# Altium schematic symbol library UWRT_Schematic_Library_2020.SchLib: 766 symbols (part 3 of 8)
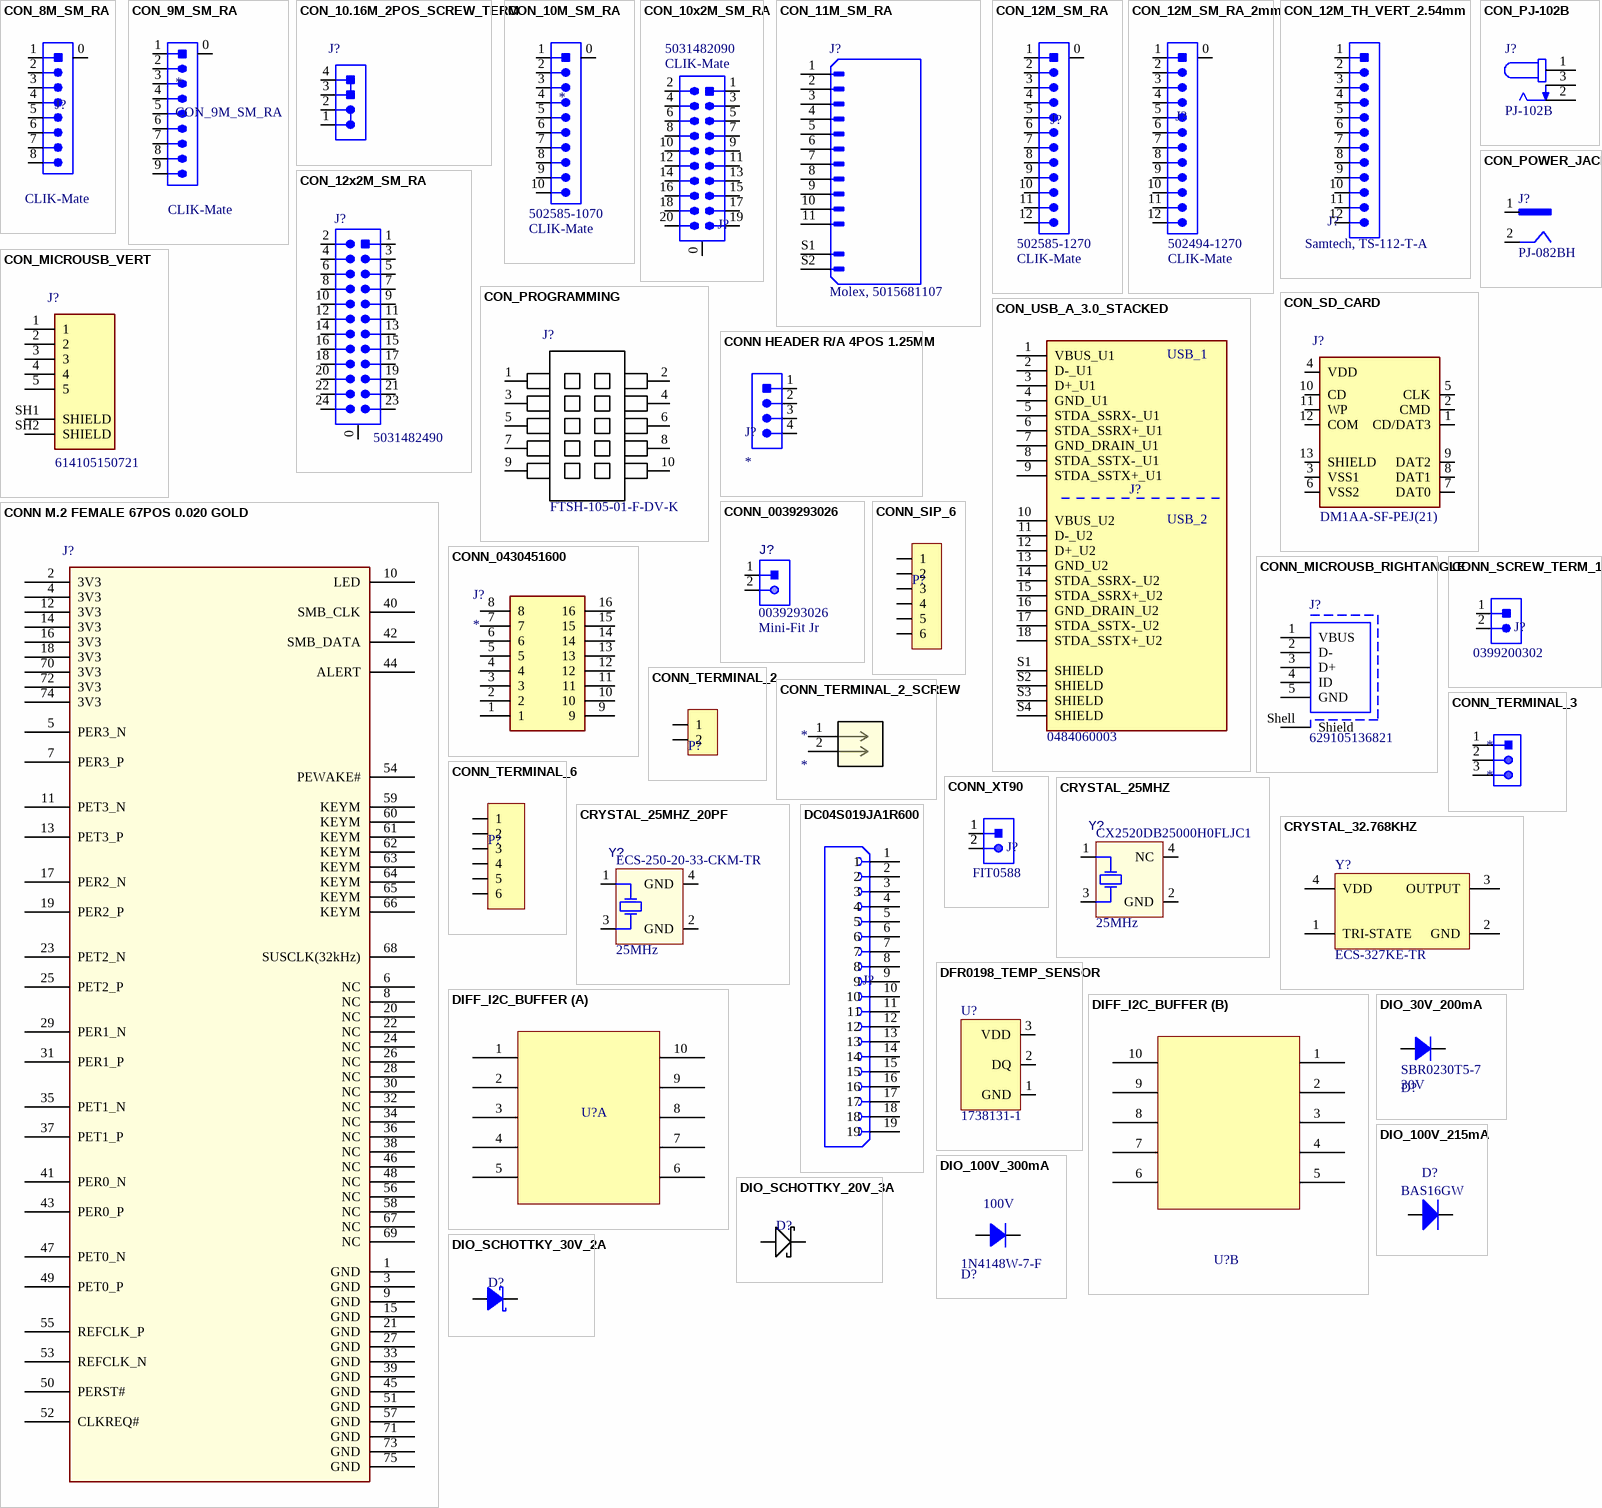
[diagram p27: symbols CON_8M_SM_RA to DIO_SCHOTTKY_30V_2A]

## DC04S019JA1R600
designator J?
HDMI HDMI 2.1 Receptacle Connector 19 Position Surface Mount, Right Angle; Through Hole; Manufacturer 1: JAE Electronics; Manufacturer Part Number 1: DC04S019JA1R600; Current Rating: 0.5A; Supplier 1: Digi-Key; Supplier Part Number 1: 670-3154-1-ND; Specifications: HDMI 2.1; Mounting Type: Surface Mount, Right Angle; Through Hole
footprint JAE_DC04S019JA1R600
pins: 1, 2, 3, 4, 5, 6, 7, 8, 9, 10, 11, 12, 13, 14, 15, 16, 17, 18, 19

## DFR0198_TEMP_SENSOR
designator U?  Manufacturer Part Number 1: 1738131-1
WATERPROOF DS18B20 DIGITAL TEMP SENSOR; Manufacturer 1: TE Connectivity AMP; Supplier 1: Digi-Key; Supplier Part Number 1: 1738-1311-ND
pins: 1 GND, 2 DQ, 3 VDD

## DIFF_I2C_BUFFER
designator U?, comment PCA9615DPJ  (value not drawn)
IC DIFF I2C BUFFER 2CH 10TSSOP; Manufacturer 1: NXP Semiconductors; Number of Channels: 2; Operating Supply Current: 16uA; Input: 2-Wire Bus; Max Frequency: 1MHz; Supplier 1: Digi-Key; Number of Pins: 10; Supplier Part Number 1: 568-11484-1-ND
footprint PCA9615DPJ (TSSOP-10)
part A pins: 1 VDDA, 2 SDA, 3 EN, 4 SCL, 5 VSS, 6 DSCLM, 7 DSCLP, 8 DSDAP, 9 DSDAM, 10 VDDB
part B pins: 1 VDDA, 2 SDA, 3 EN, 4 SCL, 5 VSS, 6 DSCLM, 7 DSCLP, 8 DSDAP, 9 DSDAM, 10 VDDB

## DIO_30V_200mA
designator D?  value 30V  Manufacturer Part Number 1: SBR0230T5-7
DIODE SBR 30V 200MA SOD523; Manufacturer 1: Diodes Incorporated; Supplier 1: Digi-Key; Supplier Part Number 1: SBR0230T5-7TR-ND
footprint SOD523 (ESD5Z3.3T1G)
pins: 1, 2

## DIO_100V_215mA
designator D?  Manufacturer Part Number 1: BAS16GW  (hidden comment: DIO_100V_215mA)
DIODE GEN PURP 100V 215MA SOD123; Manufacturer 1: Nexperia; Package/Footprint: SOD-123; Package: SOD-123; Supplier Part Number 1: 1727-7320-1-ND; Supplier 1: Digi-Key; Mounting Type: SMD; Verified: No
footprint DIODSOD-123 (SOD-123, 2-Leads, Body 2.85x1.7mm (max), Pitch 3.7mm)
pins: 1 A, 2 K

## DIO_100V_300mA
designator D?, comment value 100V  (hidden comment: 1N4148W-7-F)
DIODE GEN PURP 100V 300MA SOD123; Manufacturer 1: Diodes Incorporated; Device Class L2: Diodes; Supplier 1: Digi-Key; Supplier Part Number 1: 1N4148W-FDICT-ND; Manufacturer Part Number 1: 1N4148W-7-F
footprint SOD-123_FLAT
pins: 1, 2

## DIO_SCHOTTKY_20V_3A
designator D?  (value not drawn)
DIODE SCHOTTKY 20V 3A SMC; Part number: SS32; Manufacturer 1: ON Semiconductor / Fairchild; Supplier Part Number 1: SS32CT-ND; Supplier 1: Digi-Key; Manufacturer Part Number 1: SS32
footprint SS32 (Schottky Diode)
pins: 1 K, 2 A

## DIO_SCHOTTKY_30V_2A
designator D?  (value not drawn)
DIODE SCHOTTKY 30V 2A PMDTM; Manufacturer 1: Rohm Semiconductor; Manufacturer Part Number 1: RSX205LAM30TR; Vf (Max): 490mV; Package/Footprint: SOD-128; Supplier 1: Digi-Key; Supplier Part Number 1: RSX205LAM30CT-ND; Mounting Type: SMD; Vr (Max): 30V; Io: 2A
footprint SOD-128
pins: 1 Anode, 1 Anode, 2 Cathode, 2 Cathode

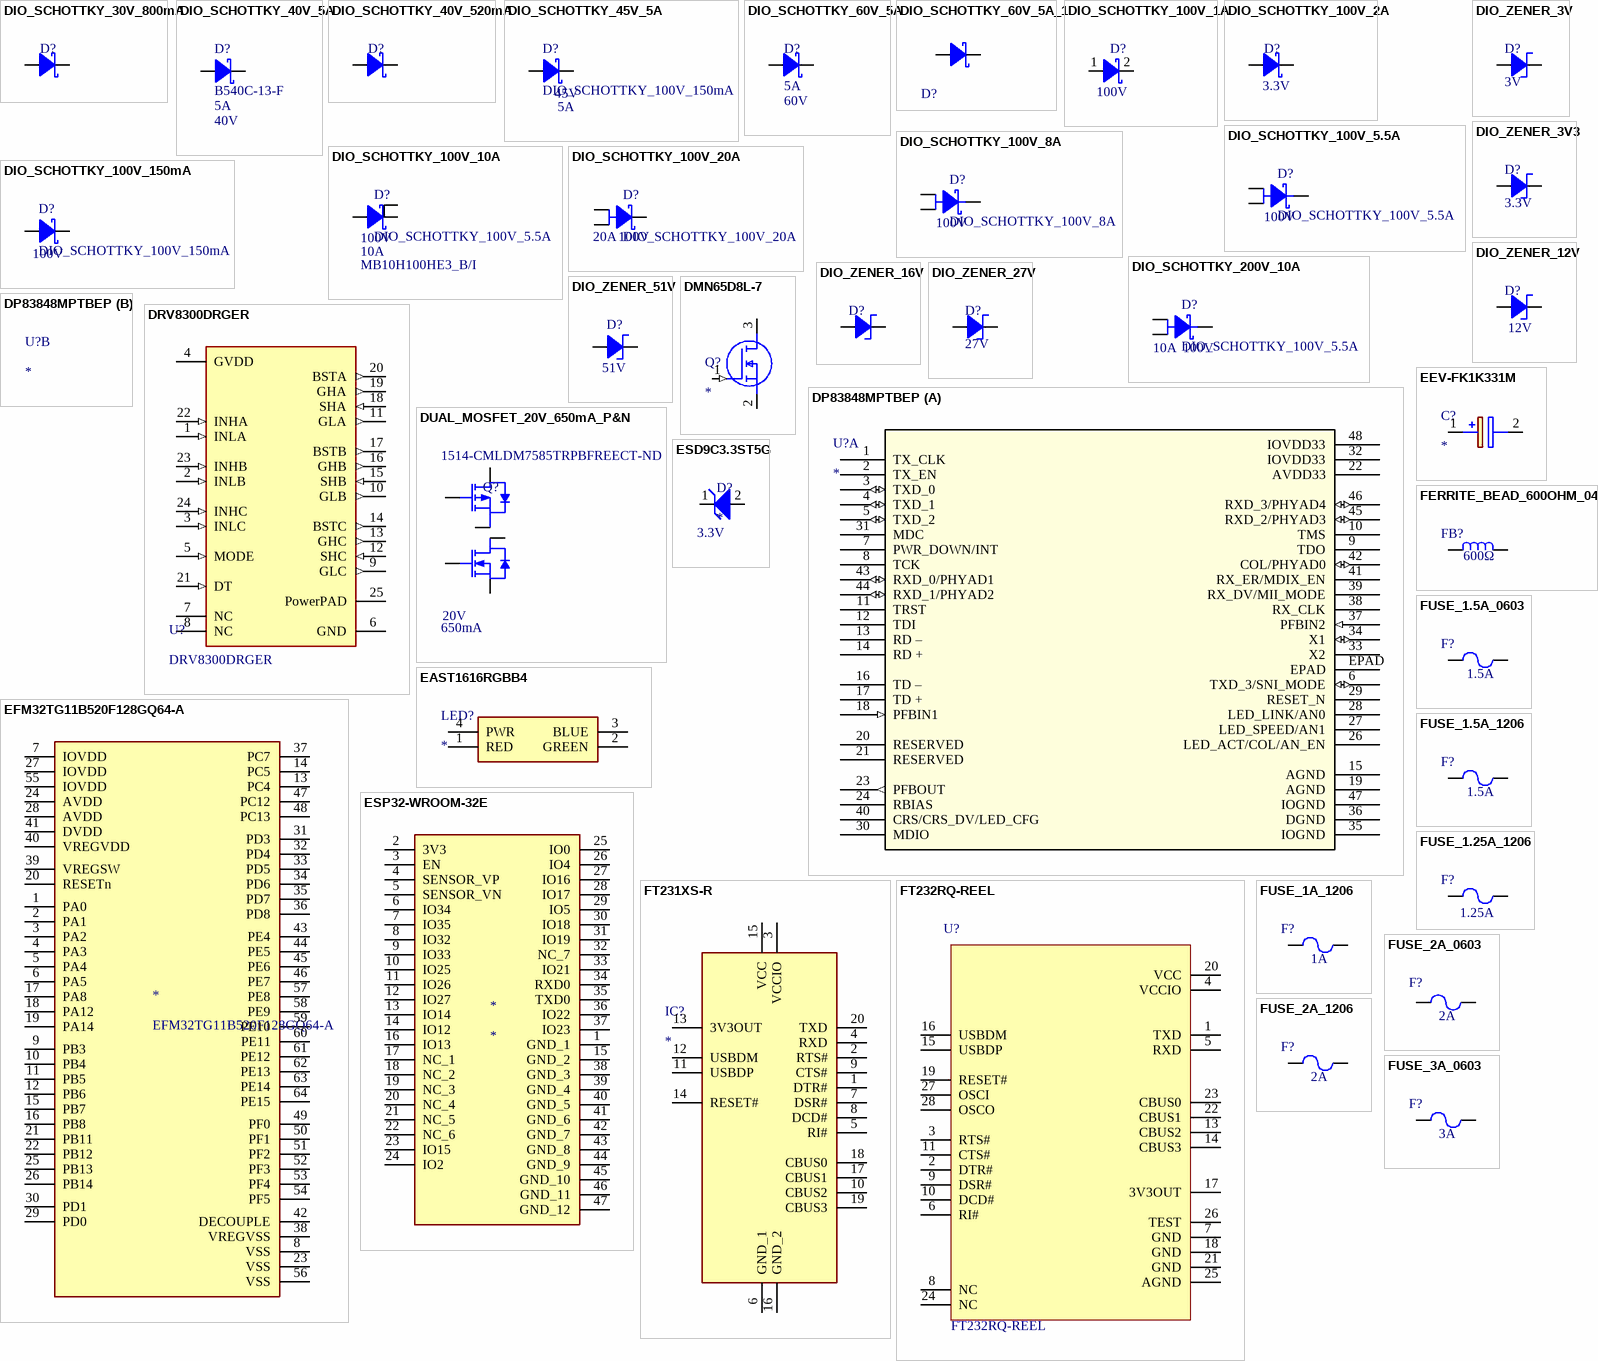
[diagram p7: symbols DIO_SCHOTTKY_30V_800mA to FUSE_3A_0603]

## DIO_SCHOTTKY_30V_800mA
designator D?  (value not drawn)
DIODE SCHOTTKY 30V 800MA USC; Manufacturer 1: Toshiba Semiconductor and Storage; Manufacturer Part Number 1: CUS08F30,H3F; Vf (Max): 220mV; Supplier 1: Digi-Key; Supplier Part Number 1: CUS08F30H3FCT-ND; Mounting Type: SMD; Vr (Max): 30V; Io: 800mA
footprint SOD-323_UNIDIR
pins: 1 Anode, 2 Cathode

## DIO_SCHOTTKY_40V_5A
designator D?  Manufacturer Part Number 1: B540C-13-F  Forward Current: 5A  Voltage: 40V  (hidden comment: DIO_SCHOTTKY_40V_5A)
DIODE SCHOTTKY 40V 5A SMC; Manufacturer 1: Diodes; Peak Reverse Current: 500uA; Peak Non-Repetitive Surge Current: 100A; Forward Voltage: 550mV; Capacitance: 300pF; Supplier 1: Digi-Key; Mounting Type: SMD; Package/Footprint: SMC; Max Repetitive Reverse Voltage (Vrrm): 40V; Max Forward Surge Current (Ifsm): 100A; Voltage Rating (DC): 40V; Current Rating: 5A; Max Reverse Voltage (DC): 40V; Current: 5A; Supplier Part Number 1: B540C-FDIDKR-ND; LCSC Part #: C72264
footprint DO214AB SMC (Molded Diode, 2-Leads, Body 6.85x5.90mm, IPC Medium Density)
pins: 1 Anode, 2 Cathode

## DIO_SCHOTTKY_40V_520mA
designator D?  (value not drawn)
DIODE SCHOTTKY 40V 520MA SOD323; Manufacturer 1: Diodes Incorporated; Manufacturer Part Number 1: ZLLS400TA; Package/Footprint: SOD-323; Supplier 1: Digi-Key; Supplier Part Number 1: ZLLS400TACT-ND; Mounting Type: SMD; Vr (Max): 40V; Io: 520mA
footprint SOD-323
pins: 1 Anode, 2 Cathode

## DIO_SCHOTTKY_45V_5A
designator D?, comment DIO_SCHOTTKY_100V_150mA  Average Rectified Current: 5A  Vr (Max): 45V
DIODE SCHOTTKY 45V 5A DO214AA; Manufacturer 1: Comchip Technology; Manufacturer Part Number 1: CDBB545LR-HF; Package/Footprint: SOD-123; vf(Max): 480mV; Mounting Type: SMD; Supplier 1: Digi-Key; Supplier Part Number 1: 641-CDBB545LR-HFTR-ND
footprint DIO_SCHOTTKY_45V_5A_vF480mV (Molded Diode, 2-Leads, Body 4.31x3.62mm, IPC Medium Density)
pins: 1 Anode, 2 Cathode

## DIO_SCHOTTKY_60V_5A
designator D?, comment Vr (Max): 60V  Io: 5A  (hidden comment: DIO_SCHOTTKY_30V_800mA)
DIODE SCHOTTKY 60V 5A SMC; Manufacturer 1: Diodes Incorporated; Manufacturer Part Number 1: B560C-13-F; Vf (Max): 700mV; Supplier 1: Digi-Key; Supplier Part Number 1: B560C-FDICT-ND; Mounting Type: SMD
footprint SOD-323_UNIDIR
pins: 1 Anode, 2 Cathode

## DIO_SCHOTTKY_60V_5A_1
designator D?, comment DIO_SCHOTTKY_40V_500mA  (value not drawn)
DIODE SCHOTTKY 60V 5A SMC; Manufacturer 1: Diodes Incorporated; Manufacturer Part Number 1: B560C-13-F; Value: 170pF; Max Surge Forward Current: 5.5A; Package: SOD123; Device Class L2: Diodes; Supplier 1: Digi-Key; Supplier Part Number 1: B560C-FDICT-ND
footprint SOD-123_FLAT
pins: 1, 2

## DIO_SCHOTTKY_100V_1A
designator D?  Vr (Max): 100V  (hidden comment: DIO_SCHOTTKY_100V_1A)
DIODE SCHOTTKY 100V 1A SOD-123F; Manufacturer 1: SMC Diode Solutions; Manufacturer Part Number 1: DSS110U; Supplier 1: Digi-Key; Supplier Part Number 1: 1655-DSS110UCT-ND; Mounting Type: SMD; Package/Footprint: SOD-123F
footprint SOD-123FL (SODFL, 2-Leads, Body 1.80x3.60mm, IPC Medium Density)
pins: 1 Anode, 2 Cathode

## DIO_SCHOTTKY_100V_2A
designator D?  (value not drawn)
DIODE SCHOTTKY 100V 2A SOD123F; Manufacturer 1: STMicroelectronics; Manufacturer Part Number 1: STPSH100ZF; Package/Footprint: SOD-123F; Supplier 1: Digi-Key; Supplier Part Number 1: 497-17152-2-ND; Mounting Type: SMD; Verified: No
footprint SOD-123_FLAT
pins: 1 Anode, 2 Cathode
text: 3.3V

## DIO_SCHOTTKY_100V_5.5A
designator D?  Vr (Max): 100V
DIODE SCHOTTKY 100V 5.5A DPAK; Manufacturer 1: Vishay General Semiconductor - Diodes Division; Manufacturer Part Number 1: VS-50WQ10FN-M3; Package/Footprint: TO-252-3, DPak (2 Leads + Tab), SC-63; Supplier 1: Digi-Key; Supplier Part Number 1: VS-50WQ10FN-M3-ND; Mounting Type: SMD
footprint D-PAK (TO-252AA)
pins: 1 Anode, 2 Cathode, 3

## DIO_SCHOTTKY_100V_8A
designator D?  Vr (Max): 100V
Diode 100 V 8A Surface Mount TO-277; Manufacturer 1: GSGC151BS; Manufacturer Part Number 1: Good-Ark Semiconductor; Package/Footprint: T0-277; Mounting Type: SMD; Supplier 1: Digikey; Supplier Part Number 1: 4786-GSGC151BSTR-ND
footprint TO-277
pins: 1 Anode, 2 Cathode, 3

## DIO_SCHOTTKY_100V_10A
designator D?, comment DIO_SCHOTTKY_100V_5.5A  Forward Current: 10A  Manufacturer Part Number 1: MB10H100HE3_B/I  Vr (Max): 100V
DIODE SCHOTTKY 100V 10A TO263AB; Manufacturer 1: Vishay General Semiconductor - Diodes Division; Package/Footprint: TO-263AB; Mounting Type: SMD; Supplier 1: Digi-Key; Supplier Part Number 1: 112-MB10H100HE3_B/ICT-ND
footprint D2PAK (TO-263AB) (TO-252AA)
pins: 1 Cathode, 2 Anode, 3  Heatsink (K)

## DIO_SCHOTTKY_100V_20A
designator D?  Vr (Max): 100V  Forward Current: 20A
DIODE SCHOTTKY 100V 20A D2PAK; Manufacturer 1: STMicroelectronics; Manufacturer Part Number 1: STPS20M100SG-TR; Package/Footprint: TO-263AB; Mounting Type: SMD; Supplier 1: Digi-Key; Supplier Part Number 1: 497-10993-1-ND
footprint D2PAK (TO-263AB) (TO-252AA)
footprint D2PAK (TO-263AB) - STPS20M100SG-TR (TO-252AA)
pins: 1 Anode, 2 Anode, 3 Cathode

## DIO_SCHOTTKY_100V_150mA
designator D?  Vr (Max): 100V
DIODE SCHOTTKY 100V 150MA SOD123; Manufacturer 1: Comchip Technology; Manufacturer Part Number 1: CDBW46-G; Package/Footprint: SOD-123; Mounting Type: SMD; Supplier 1: Digi-Key; Supplier Part Number 1: 641-1964-1-ND
footprint SOD-123_FLAT
pins: 1 Anode, 2 Cathode

## DIO_SCHOTTKY_200V_10A
designator D?, comment DIO_SCHOTTKY_100V_5.5A  Average Rectified Current: 10A  Vr (Max): 100V
DIODE SCHOTTKY 200V 10A DPAK; Manufacturer 1: SMC Diode Solutions; Manufacturer Part Number 1: SBRD10200; Package/Footprint: TO-252-3, DPak (2 Leads + Tab), SC-63; Supplier 1: Digi-Key; Supplier Part Number 1: 1655-SBRD10200CT-ND; Mounting Type: SMD
footprint D-PAK (TO-252AA)
pins: 1 Anode, 2 Cathode, 3 Anode

## DIO_ZENER_3V
designator D?  Working Voltage: 3V  (hidden comment: DIO_ZENER_3V)
DIODE ZENER 3V 500MW SOD123; Manufacturer 1: Micro Commercial Co; Manufacturer Part Number 1: MMSZ4683-TP; Forward Voltage: 0.95V; Supplier Part Number 1: MMSZ4683-TPMSCT-ND; Supplier 1: Digi-Key; Package/Case: SOD-123
footprint MMSZ4683-TP (SODFL, 2-Leads, Body 1.80x3.90mm, IPC Medium Density)
pins: 1 Cathode, 2 Anode

## DIO_ZENER_3V3
designator D?  Working Voltage: 3.3V  (hidden comment: DIO_ZENER_3V3)
DIODE ZENER 3.3V 200mW SOD323F; Manufacturer 1: ON Semiconductor / Fairchild; Manufacturer Part Number 1: MM3Z3V3B; Forward Voltage: 1V; Supplier Part Number 1: MM3Z3V3BCT-ND; Supplier 1: Digi-Key; Package/Case: SOD323F
footprint DIO_ZENER_3V3 (DIODE ZENER 3.3V 200MW SOD323F)
pins: 1 Anode, 2 Cathode

## DIO_ZENER_12V
designator D?  Voltage Rating (DC): 12V  (hidden comment: DIO_ZENER_12V)
DIODE ZENER 12V 300mW SMD SOD-323; Manufacturer 1: ON Semiconductor; Manufacturer Part Number 1: MM3Z12VST1G; Forward Voltage: 900mV; Supplier 1: Digi-Key; Working Voltage: 12V; Supplier Part Number 1: MM3Z12VST1GOSCT-ND
footprint SOD-323
pins: 1 Anode, 2 Cathode

## DIO_ZENER_16V
designator D?  (value not drawn)
DIODE ZENER 16V 500MW SOD123; Manufacturer Part Number 1: MMSZ5246B-7-F; Manufacturer 1: Diodes Incorporated; Forward Voltage: 900mV; Supplier 1: Digi-Key; Supplier Part Number 1: MMSZ5246B-FDITR-ND
footprint SOD-123_FLAT
pins: 1 Anode, 2 Cathode

## DIO_ZENER_27V
designator D?  Working Voltage: 27V
DIODE ZENER 27V 250MW SOT23; Manufacturer 1: Nexperia USA Inc.; Manufacturer Part Number 1: BZX84-C27,215; Forward Voltage: 0.9V; Supplier Part Number 1: 1727-5026-2-ND; Supplier 1: Digi-Key
footprint BZX84-C27,215 (DIODE ZENER 27V 250MW TO236AB)
pins: 1 Anode, 3 Cathode

## DIO_ZENER_51V
designator D?  Working Voltage: 51V
DIODE ZENER 51V 250MW TO236AB; Manufacturer 1: Nexperia USA Inc.; Manufacturer Part Number 1: BZX84-C51,215; Forward Voltage: 0.9V; Package/Case: SOT-23-3; Supplier 1: Digi-Key; Supplier Part Number 1: 1727-5037-1-ND
footprint SOT23-3 (SOT23, 3-Leads, Body 2.90x2.30mm, Pitch 0.95mm, IPC Medium Density)
pins: 1 Anode, 3 Cathode

## DMN65D8L-7
designator Q?
MOSFET (N-Channel); Manufacturer_Name: Diodes Inc.; Manufacturer_Part_Number: DMN65D8L-7; Datasheet Link: https://www.diodes.com/assets/Datasheets/DMN65D8L.pdf; Height: 1mm; Mouser Part Number: 621-DMN65D8L-7; Mouser Price/Stock: https://www.mouser.co.uk/ProductDetail/Diodes-Incorporated/DMN65D8L-7?qs=gfe7vQ8txpWvqTwiknwghA%3D%3D; Arrow Part Number: DMN65D8L-7; Arrow Price/Stock: https://www.arrow.com/en/products/dmn65d8l-7/diodes-incorporated?region=nac
footprint SOT96P240X100-3N
pins: 1 G (in), 2 S, 3 D

## DP83848MPTBEP
designator U?
No Description Available; Mfr_Name: Texas Instruments; RefDes: RefDes; Type: Type
footprint QFP_PTBEP_TEX
part A pins: 1 TX_CLK, 2 TX_EN, 3 TXD_0 (io), 4 TXD_1 (io), 5 TXD_2 (io), 6 TXD_3/SNI_MODE (io), 7 PWR_DOWN/INT, 8 TCK, 9 TDO, 10 TMS, 11 TRST, 12 TDI, 13 RD –, 14 RD +, 15 AGND (power), 16 TD –, 17 TD +, 18 PFBIN1 (in), 19 AGND (power), 20 RESERVED, 21 RESERVED, 22 AVDD33 (power), 23 PFBOUT (out), 24 RBIAS, 26 LED_ACT/COL/AN_EN, 27 LED_SPEED/AN1, 28 LED_LINK/AN0, 29 RESET_N, 30 MDIO, 31 MDC, 32 IOVDD33 (power), 33 X2, 34 X1 (io), 35 IOGND (power), 36 DGND (power), 37 PFBIN2 (in), 38 RX_CLK, 39 RX_DV/MII_MODE, 40 CRS/CRS_DV/LED_CFG, 41 RX_ER/MDIX_EN, 42 COL/PHYAD0 (io), 43 RXD_0/PHYAD1 (io), 44 RXD_1/PHYAD2 (io), 45 RXD_2/PHYAD3 (io), 46 RXD_3/PHYAD4 (io), 47 IOGND (power), 48 IOVDD33 (power), EPAD

## DRV8300DRGER
designator U?
High-Side and Low-Side Gate Driver IC Non-Inverting 24-VQFN (4x4); Mfr_Name: Texas Instruments; Type: DEV; RefDes: RefDes; Copyright: Copyright (C) 2022 Ultra Librarian. All rights reserved.; Manufacturer_Part_Number: DRV8300DRGER; Supplier 1: Digi-Key; Supplier Part Number 1: 296-DRV8300DRGERCT-ND
footprint RGE0024B-IPC_B
pins: 1 INLA (in), 2 INLB (in), 3 INLC (in), 4 GVDD (power), 5 MODE (in), 6 GND (power), 7 NC, 8 NC, 9 GLC (out), 10 GLB (out), 11 GLA (out), 12 SHC (in), 13 GHC (out), 14 BSTC (out), 15 SHB (in), 16 GHB (out), 17 BSTB (out), 18 SHA (in), 19 GHA (out), 20 BSTA (out), 21 DT (in), 22 INHA (in), 23 INHB (in), 24 INHC (in), 25 PowerPAD (power)

## DUAL_MOSFET_20V_650mA_P&N
designator Q?  Continuous Drain Current (ID): 650mA  Drain to Source Voltage (Vdss): 20V  Supplier Part Number 1: 1514-CMLDM7585TRPBFREECT-ND
MOSFET N/P-CH 20V 0.65A SOT563; Manufacturer 1: Diodes; Rds On Max: 230mOhms; Input Capacitance: 100pF; Max Power Dissipation: 350mW; Stock 1: 72; Supplier 1: Digi-Key
footprint ES6-M
pins: 1 SOURCE-N "SOURCE", 2 GATE-N "GATE", 3 GATE-N "GATE", 4 DRAIN-P "DRAIN", 5 GATE-P "GATE", 6 GATE-N "GATE"

## EAST1616RGBB4
designator LED?
LED; Manufacturer_Name: Everlight; Manufacturer_Part_Number: EAST1616RGBB4; Datasheet Link: https://www.arrow.com/en/products/east1616rgbb4/everlight-electronics; Height: 0.35mm; Mouser Part Number: 638-EAST1616RGBB4; Mouser Price/Stock: https://www.mouser.co.uk/ProductDetail/Everlight/EAST1616RGBB4?qs=byeeYqUIh0MV1umjFPI4mw%3D%3D; Arrow Part Number: EAST1616RGBB4; Arrow Price/Stock: https://www.arrow.com/en/products/east1616rgbb4/everlight-electronics
footprint EAST1616RGBB4
pins: 1 RED, 2 GREEN, 3 BLUE, 4 PWR

## EEV-FK1K331M
designator C?
Capacitor Polarised; Manufacturer_Name: Panasonic; Manufacturer Part Number 1: EEV-FK1K331M; Datasheet Link: http://industrial.panasonic.com/cdbs/www-data/pdf/RDE0000/ABA0000C1181.pdf; Height: 17mm; Mouser Part Number: 667-EEV-FK1K331M; Mouser Price/Stock: https://www.mouser.co.uk/ProductDetail/Panasonic/EEV-FK1K331M?qs=f%252BPvLx1Hi0niAwhZUCTEVQ%3D%3D
footprint EEEFK0J682AM
pins: 1 +, 2 -

## EFM32TG11B520F128GQ64-A
designator *
EFM32 Tiny Gecko Series 1 MCUs 32-bit ARM® Cortex®-M0+; Manufacturer: Silicon Labs; Manufacturer Part Number: EFM32TG11B520F128GQ64-AR; Interface: I2C,SPI,IrDA,UART,USART; Peripherals: Brown-out Detect/Reset,POR,PWM,WDT,DMA,LCD; Memory Type: FLASH; Core Architecture: ARM; Frequency: 48MHz; Number of I/Os: 50; Memory Size: 128KB; Oscillator Type: Internal; Supplier 1: Digi-Key; Supplier Part Number 1: EFM32TG11B520F128GQ64-AR-ND; RoHS: Yes; Pricing 1: 1000=2.05659 (USD); Case/Package: TQFP; Min Operating Temperature: -40°C; Max Operating Temperature: 85°C; Packaging: Tape and Reel; ComponentLink1URL: https://www.silabs.com/documents/public/data-sheets/efm32tg11-datasheet.pdf?src-supplier=Digi-Key; ComponentLink1Description: https://www.silabs.com/documents/public/data-sheets/efm32tg11-datasheet.pdf?src-supplier=Digi-Key; ComponentLink2Description: Capacitor Sizing Guide; ComponentLink2URL: https://www.silabs.com/documents/public/application-notes/an0002.1-efr32-efm32-series-1-hardware-design-considerations.pdf
pins: 1 PA0, 2 PA1, 3 PA2, 4 PA3, 5 PA4, 6 PA5, 7 IOVDD, 8 VSS, 9 PB3, 10 PB4, 11 PB5, 12 PB6, 13 PC4, 14 PC5, 15 PB7, 16 PB8, 17 PA8, 18 PA12, 19 PA14, 20 RESETn, 21 PB11, 22 PB12, 23 VSS, 24 AVDD, 25 PB13, 26 PB14, 27 IOVDD, 28 AVDD, 29 PD0, 30 PD1, 31 PD3, 32 PD4, 33 PD5, 34 PD6, 35 PD7, 36 PD8, 37 PC7, 38 VREGVSS, 39 VREGSW, 40 VREGVDD, 41 DVDD, 42 DECOUPLE, 43 PE4, 44 PE5, 45 PE6, 46 PE7, 47 PC12, 48 PC13, 49 PF0, 50 PF1, 51 PF2, 52 PF3, 53 PF4, 54 PF5, 55 IOVDD, 56 VSS, 57 PE8, 58 PE9, 59 PE10, 60 PE11, 61 PE12, 62 PE13, 63 PE14, 64 PE15

## ESD9C3.3ST5G
designator D?  Voltage: 3.3V
TVS DIODE 3.3VWM SOD923; Manufacturer Part Number 1: ESD9C3.3ST5G
footprint ESD9C3.3ST5G
pins: 1, 2

## ESP32-WROOM-32E
designator *
WiFi Modules ROHS; Manufacturer 1: Espressif Systems; Supplier 1: Digi-Key; LCSC Number: C701343; Supplier Part Number 1: 1965-ESP32-WROOM-32E(16MB)CT-ND; Package: SMD38,18x25.5x3.1
footprint ESP32-WROOM-32E
pins: 1 GND_1, 2 3V3, 3 EN, 4 SENSOR_VP, 5 SENSOR_VN, 6 IO34, 7 IO35, 8 IO32, 9 IO33, 10 IO25, 11 IO26, 12 IO27, 13 IO14, 14 IO12, 15 GND_2, 16 IO13, 17 NC_1, 18 NC_2, 19 NC_3, 20 NC_4, 21 NC_5, 22 NC_6, 23 IO15, 24 IO2, 25 IO0, 26 IO4, 27 IO16, 28 IO17, 29 IO5, 30 IO18, 31 IO19, 32 NC_7, 33 IO21, 34 RXD0, 35 TXD0, 36 IO22, 37 IO23, 38 GND_3, 39 GND_4, 40 GND_5, 41 GND_6, 42 GND_7, 43 GND_8, 44 GND_9, 45 GND_10, 46 GND_11, 47 GND_12

## FERRITE_BEAD_600OHM_0402
designator FB?  Impedance: 600Ω
FIXED IND 1UH 3.8A 33 MOHM SMD; Manufacturer 1: TDK Corporation; Manufacturer Part Number 1: MMZ1005S601CT000; DC Resistance (DCR) (Max): 520mΩ; Current Rating (Max): 300mA; Impedance @ Frequency: 600Ω @ 100 MHz; Supplier Part Number 1: 445-2162-1-ND; Supplier 1: Digi-Key; Mounting Type: SMD; Package/Footprint: SMD; Package: 0402
footprint RES0402 (Chip Resistor, Body 1x0.5mm, IPC Medium Density)
pins: 1, 2

## FT231XS-R
designator IC?
SSOP-20 USB ICs ROHS; Manufacturer 1: FTDI; Manufacturer Part Number 1: FT231XS-R; Datasheet Link: http://docs-emea.rs-online.com/webdocs/1102/0900766b811020d3.pdf; Height: 1.753mm; Mouser Part Number: 895-FT231XS-R; Mouser Price/Stock: https://www.mouser.co.uk/ProductDetail/FTDI/FT231XS-R?qs=Gp1Yz1mis3WduRPsgrTbtg%3D%3D; Arrow Part Number: FT231XS-R; Arrow Price/Stock: https://www.arrow.com/en/products/ft231xs-r/ftdi-chip?region=nac; LCSC Number: C132160
footprint SOP64P599X175-20N
pins: 1 DTR#, 2 RTS#, 3 VCCIO, 4 RXD, 5 RI#, 6 GND_1, 7 DSR#, 8 DCD#, 9 CTS#, 10 CBUS2, 11 USBDP, 12 USBDM, 13 3V3OUT, 14 RESET#, 15 VCC, 16 GND_2, 17 CBUS1, 18 CBUS0, 19 CBUS3, 20 TXD

## FT232RQ-REEL
designator U?
USB Bridge, USB to UART USB 2.0 UART Interface 32-QFN (5x5); Manufacturer: FTDI; Max Frequency: 48MHz; Package Equivalence Code: LCC32,.2SQ,20; Max Supply Voltage: 5.25V; Min Supply Voltage: 3.3V; Max Supply Current: 100uA; Qualification Status: Not Qualified; Supplier 1: Digi-Key; Supplier Part Number 1: 768-1008-1-ND; RoHS: Yes; Category: Interface ICs; Pricing 1: 1=4.70000, 10=4.25000, 50=4.05000, 100=3.85000, 250=3.45000, 500=3.05000, 1000=2.85002, 2500=2.55001 (USD); Package Code: HVQCCN; Number of Pins: 32; Package Shape: Square; Min Operating Temperature: -40°C; Max Operating Temperature: 85°C; JESD-30 Code: S-XQCC-N32; Moisture Sensitivity Level: 3; Package Style: CHIP CARRIER, HEAT SINK/SLUG, VERY THIN PROFILEMeter; Surface Mount: Yes; Technology: CMOS; Terminal Form: No Lead; Terminal Position: QUAD; Length: 5mm; Width: 5mm; Height - Seated (Max): 1mm; Terminal Pitch: 0.5mm; Temperature Grade: INDUSTRIAL; REACH SVHC: Yes; RoHS Compliant: Yes; ComponentLink1URL: https://datasheet.ciiva.com:443/pdfs/VipMasterIC/IC/FTDI/FTDI-S-A0007980421/FTDI-S-A0007980421-1.pdf?src-supplier=IHS+Markit; ComponentLink1Description: https://datasheet.ciiva.com:443/pdfs/VipMasterIC/IC/FTDI/FTDI-S-A0007980421/FTDI-S-A0007980421-1.pdf?src-supplier=IHS+Markit; ComponentLink2URL: https://datasheet.ciiva.com/1505/1647396-1505445.pdf?src-supplier=Digi-Key; ComponentLink2Description: https://datasheet.ciiva.com/1505/1647396-1505445.pdf?src-supplier=Digi-Key; ComponentLink3URL: https://datasheet.ciiva.com/26841/ft232rq-reel-26841082.pdf?src-supplier=IIIC; ComponentLink3Description: https://datasheet.ciiva.com/26841/ft232rq-reel-26841082.pdf?src-supplier=IIIC; ComponentLink4URL: https://datasheet.ciiva.com/16438/ds-ft232r-16438555.pdf?src-supplier=Future+Electronics; ComponentLink4Description: https://datasheet.ciiva.com/16438/ds-ft232r-16438555.pdf?src-supplier=Future+Electronics; ComponentLink5URL: https://datasheet.ciiva.com/15150/getdatasheetpartid-644721-15150509.pdf?src-supplier=Verical; ComponentLink5Description: https://datasheet.ciiva.com/15150/getdatasheetpartid-644721-15150509.pdf?src-supplier=Verical; ComponentLink6URL: https://datasheet.ciiva.com/4787/ds-ft232r-4787663.pdf?src-supplier=Mouser; ComponentLink6Description: https://datasheet.ciiva.com/4787/ds-ft232r-4787663.pdf?src-supplier=Mouser; ComponentLink7URL: https://datasheet.ciiva.com/1787/ds-ft232r-1787041.pdf?src-supplier=Digi-Key; ComponentLink7Description: https://datasheet.ciiva.com/1787/ds-ft232r-1787041.pdf?src-supplier=Digi-Key; ComponentLink8URL: https://datasheet.ciiva.com/1787/ds-ft232r-1787042.pdf?src-supplier=Digi-Key; ComponentLink8Description: https://datasheet.ciiva.com/1787/ds-ft232r-1787042.pdf?src-supplier=Digi-Key; Manufacturer Part Number: FT232RQ-REEL
footprint FT232RQ-REEL_FTD
pins: 1 TXD, 2 DTR#, 3 RTS#, 4 VCCIO, 5 RXD, 6 RI#, 7 GND, 8 NC, 9 DSR#, 10 DCD#, 11 CTS#, 13 CBUS2, 14 CBUS3, 15 USBDP, 16 USBDM, 17 3V3OUT, 18 GND, 19 RESET#, 20 VCC, 21 GND, 22 CBUS1, 23 CBUS0, 24 NC, 25 AGND, 26 TEST, 27 OSCI, 28 OSCO

## FUSE_1.5A_0603
designator F?  Current Rating: 1.5A
FUSE BOARD MNT 1.5A 32VAC 65VDC / 0603; Manufacturer 1: Littelfuse; Manufacturer Part Number 1: 046701.5NRHF; Voltage Rating (DC): 32V; Package/Footprint: 0603; Supplier 1: Digi-Key; Supplier Part Number 1: F5702CT-ND; Mounting Type: SMD; LCSC Part #: *
footprint FUSE_0603 (Chip Fuse, Body 1.6x0.81mm)
pins: 1, 2

## FUSE_1.5A_1206
designator F?  Current Rating: 1.5A
FUSE SMD 1.5A 63V 1206; Manufacturer 1: Littelfuse; Manufacturer Part Number 1: 046601.5NR; Package/Footprint: 1206; Supplier 1: Digi-Key; Mounting Type: SMD; Voltage Rating (DC): 63V; Supplier Part Number 1: F1462CT-ND
footprint FUSE_1206
pins: 1, 2

## FUSE_1.25A_1206
designator F?  Current Rating: 1.25A
FUSE BOARD MOUNT 1.25A 63VAC/VDC 1206; Manufacturer 1: Littelfuse; Manufacturer Part Number 1: 04661.25NRHF; Voltage Rating (DC): 63V; Package/Footprint: 1206; Supplier 1: Digi-Key; Supplier Part Number 1: F11418CT-ND; Mounting Type: SMD; LCSC Part #: *
footprint FUSE_1206
pins: 1, 2

## FUSE_1A_1206
designator F?  Current Rating: 1A
FUSE BOARD MOUNT 1A 125VAC 63VDC; Manufacturer 1: Bel Fuse Inc.; Manufacturer Part Number 1: C1Q 1; Package/Footprint: 1206; Supplier 1: Digi-Key; Supplier Part Number 1: 507-1077-1-ND; Mounting Type: SMD; LCSC Part #: *
footprint FUSE_1206
pins: 1, 2

## FUSE_2A_0603
designator F?  Current Rating: 2A  (hidden comment: FUSE_2A_0603)
FUSE SMD 2A 32V 0603; Manufacturer Part Number 1: 0467002.NRHF; Manufacturer 1: Littelfuse; Voltage Rating (DC): 32V; Supplier 1: Digi-Key; Supplier Part Number 1: F7132CT-ND
footprint FUSE_0603 (Chip Fuse, Body 1.6x0.81mm)
pins: 1, 2

## FUSE_2A_1206
designator F?  Current Rating: 2A
FUSE SMD 2A 63V 1206; Manufacturer 1: Littelfuse; Manufacturer Part Number 1: 0466002.NRHF; Supplier 1: Digi-Key; Voltage Rating (DC): 63V; Supplier Part Number 1: F5696CT-ND
footprint FUSE_1206
pins: 1, 2

## FUSE_3A_0603
designator F?
FUSE SMD 3A 32V 0603; Manufacturer Part Number 1: 0467003.NR; Manufacturer 1: Littelfuse; Supplier Part Number 1: F1399CT-ND; Supplier 1: Digi-Key; Voltage Rating (DC): 32V; Current Rating: 3A
footprint FUSE_0603 (Chip Fuse, Body 1.6x0.81mm)
pins: 1, 2

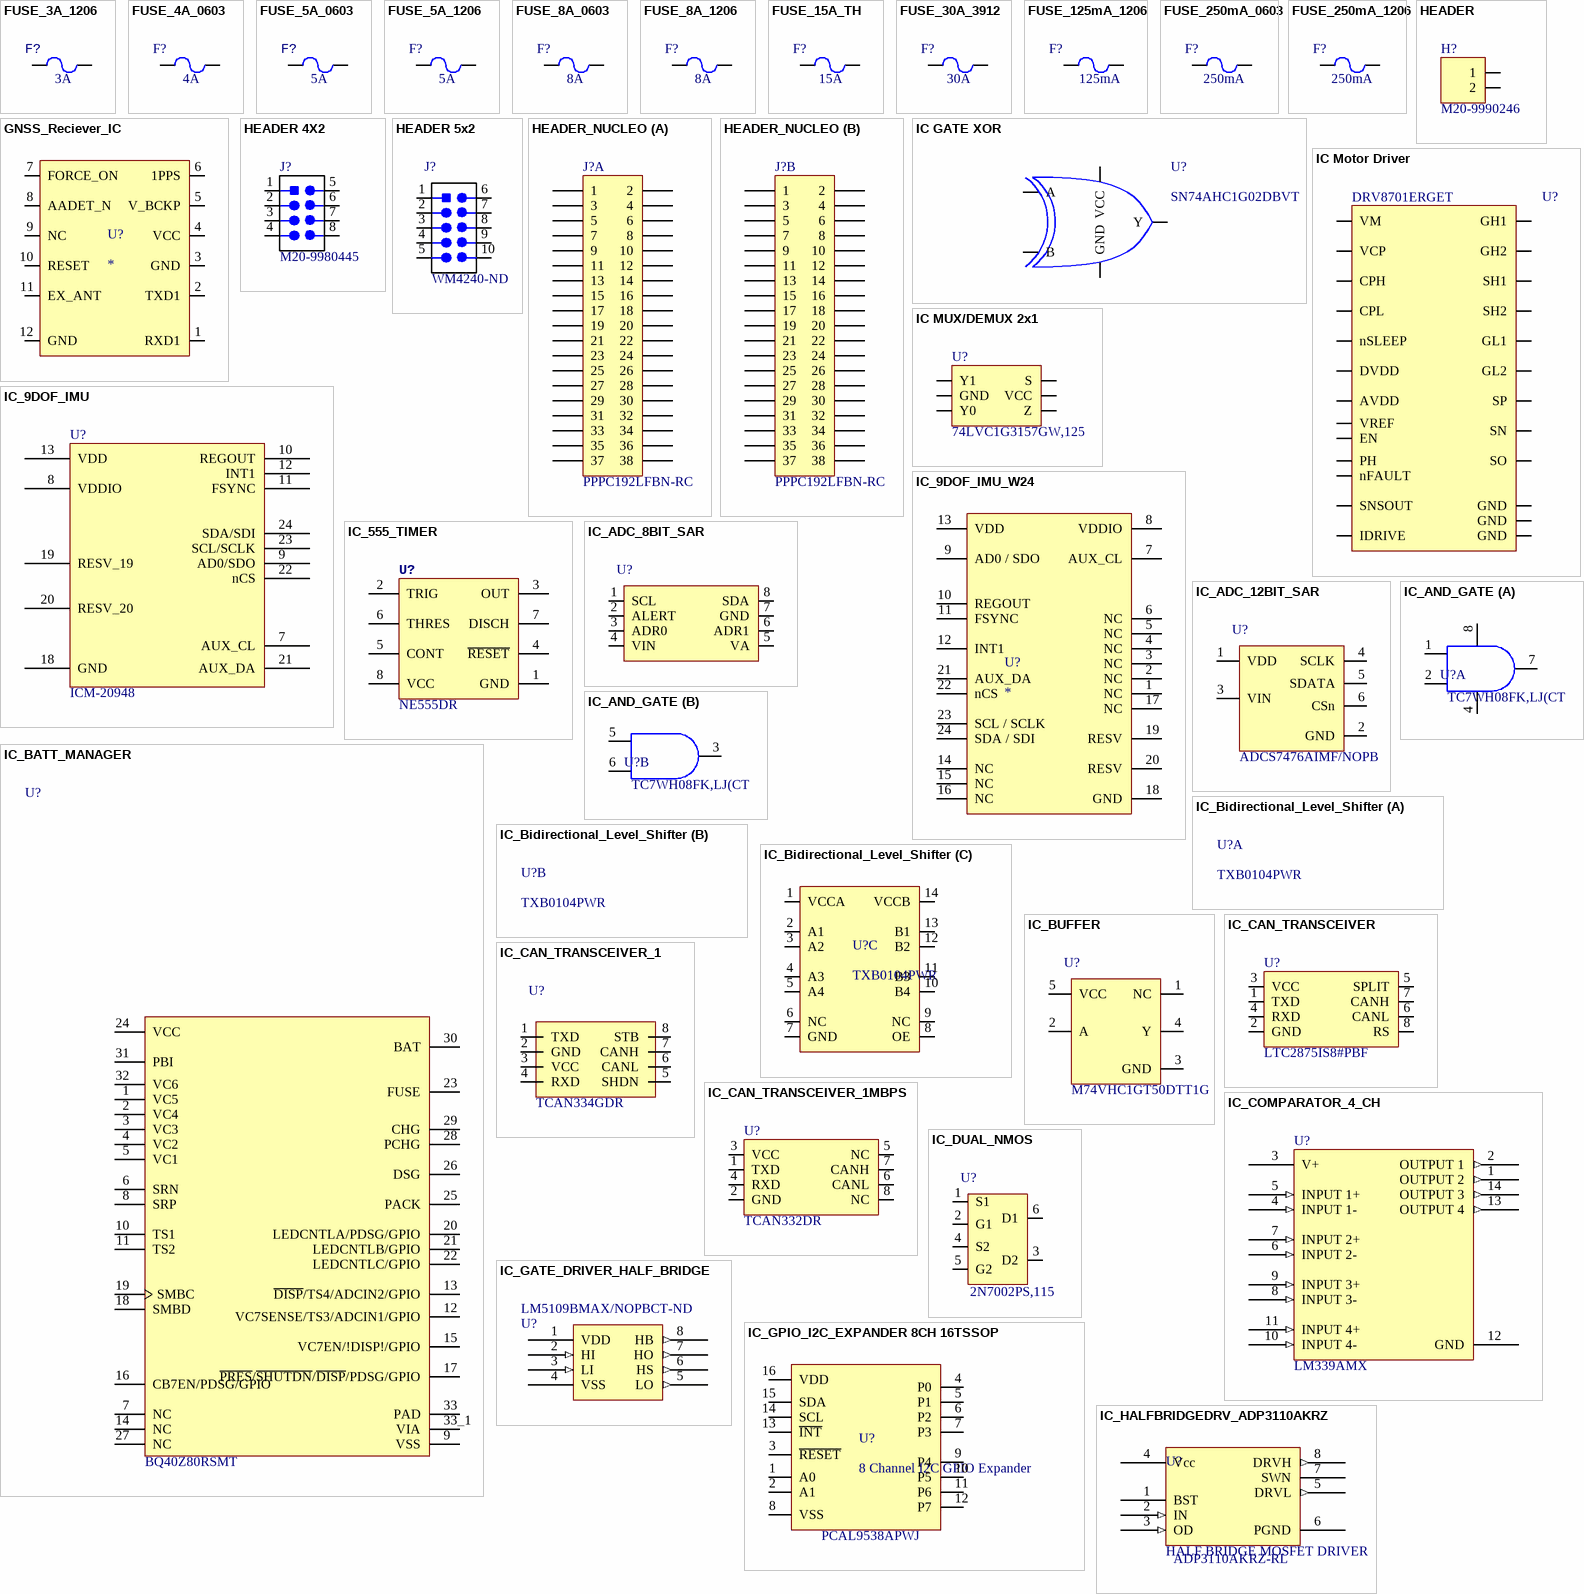
[diagram p8: symbols FUSE_3A_1206 to IC_HALFBRIDGEDRV_ADP3110AKRZ]

## FUSE_3A_1206
designator F?  Current Rating: 3A
FUSE BOARD MNT 3A 32VAC/VDC 1206; Manufacturer 1: Littelfuse; Manufacturer Part Number 1: 0466003.NR; Package/Footprint: 1206; Supplier 1: Digi-Key; Mounting Type: SMD; Supplier Part Number 1: F1458CT-ND
footprint FUSE_1206
pins: 1, 2

## FUSE_4A_0603
designator F?
FUSE SMD 4A 32V 0603; Manufacturer 1: Littelfuse; Manufacturer Part Number 1: 0467004.NR; Supplier 1: Digi-Key; Supplier Part Number 1: F1401CT-ND; Voltage Rating (DC): 32V; Current Rating: 4A
footprint FUSE_0603 (Chip Fuse, Body 1.6x0.81mm)
pins: 1, 2

## FUSE_5A_0603
designator F?  Current Rating: 5A
FUSE SMD 5A 32V 0603; Manufacturer 1: Littelfuse; Manufacturer Part Number 1: 0467005.NR; Supplier 1: Digi-Key; Voltage Rating (DC): 32V; Supplier Part Number 1: F1402CT-ND
footprint FUSE_0603 (Chip Fuse, Body 1.6x0.81mm)
pins: 1, 2

## FUSE_5A_1206
designator F?  Current Rating: 5A
FUSE BOARD MNT 5A 32VAC/VDC 1206; Manufacturer 1: Littelfuse; Manufacturer Part Number 1: 0466005.NRHF; Package/Footprint: 1206; Supplier 1: Digi-Key; Mounting Type: SMD; Supplier Part Number 1: F6019CT-ND
footprint FUSE_1206
pins: 1, 2

## FUSE_8A_0603
designator F?  Current Rating: 8A
FUSE SMD 8A 63V 0603; Manufacturer Part Number 1: 0686F8000-01; Manufacturer 1: Bel; Supplier 1: Digi-Key; Voltage Rating (DC): 63V; Supplier Part Number 1: 507-2160-1-ND
footprint FUSE_0603 (Chip Fuse, Body 1.6x0.81mm)
pins: 1, 2

## FUSE_8A_1206
designator F?  Current Rating: 8A
FUSE SMD 8A 24V 1206; Manufacturer 1: Littelfuse; Manufacturer Part Number 1: 1206SFF800F/24-2; Package/Footprint: 1206; Supplier 1: Digi-Key; Mounting Type: SMD; Supplier Part Number 1: 1206SFF800F/24-2CT-ND; LCSC Part #: C311032
footprint FUSE_1206
pins: 1, 2

## FUSE_15A_TH
designator F?  Current Rating: 15A
FUSE CERM 15A 250VAC 125VDC 3AB; Manufacturer 1: Littelfuse; Manufacturer Part Number 1: 0324015.HXP; Package/Footprint: TH; Supplier 1: Digi-Key; Mounting Type: TH; Supplier Part Number 1: F1870-ND; Verified: No
footprint FUSE (FUSE HOLDER RADIAL 250V 6.3A PCB)
pins: 1, 2

## FUSE_30A_3912
designator F?  Current Rating: 30A
FUSE SMT 3912 ENH BRK 250V 30A; Manufacturer 1: Bel Fuse Inc.; Manufacturer Part Number 1: 0678H9300-02; Package/Footprint: 3912; Mounting Type: SMD; Verified: No; Supplier 1: Digi-Key; Supplier Part Number 1: 507-2254-1-ND
footprint FUSE_3912 (Chip Fuse, Body 9.8x2.03mm)
pins: 1, 2

## FUSE_125mA_1206
designator F?  Current Rating: 125mA
FUSE BOARD MNT 125MA 125VAC/VDC; Manufacturer 1: Littelfuse; Manufacturer Part Number 1: 0466.125NR; Package/Footprint: 1206; Voltage Rating (DC): 125V; Supplier 1: Digi-Key; Mounting Type: SMD; Supplier Part Number 1: F1450CT-ND
footprint FUSE_1206
pins: 1, 2

## FUSE_250mA_0603
designator F?  Current Rating: 250mA
FUSE SMD 250mA 32V; Manufacturer 1: Littelfuse; Manufacturer Part Number 1: 0467.250NRHF; Package/Footprint: 0603; Voltage Rating (DC): 32V; Supplier 1: Digi-Key; Mounting Type: SMD; Supplier Part Number 1: F6020CT-ND
footprint FUSE_0603 (Chip Fuse, Body 1.6x0.81mm)
pins: 1, 2

## FUSE_250mA_1206
designator F?  Current Rating: 250mA
FUSE BOARD MNT 250MA 125VAC/VDC; Manufacturer 1: Littelfuse; Manufacturer Part Number 1: 0466.250NR; Package/Footprint: 1206; Supplier 1: Digi-Key; Mounting Type: SMD; Supplier Part Number 1: F1452CT-ND
footprint FUSE_1206
pins: 1, 2

## GNSS_Reciever_IC
designator U?
Navigation Galileo, GLONASS, GPS, GNSS Transceiver Module 1.575GHz, 1.601GHz Integrated, Ceramic Patch Surface Mount; Manufacturer: Quectel; Manufacturer Product Number: L86-M33; Voltage supply: 3V ~ 4.3V; Mounting type: Surface Mount; Supplier: DigiKey; Package: LCC; ComponentLink1Description: Digikey Link; ComponentLink1URL: https://www.digikey.ca/en/products/detail/quectel/L86-M33/13278361; ComponentLink2Description: Datasheet Link; ComponentLink2URL: https://www.mouser.ca/datasheet/2/1052/QWSC_S_A0007269014_1-2576162.pdf
footprint L86_M33_GNSS_Reciever_IC (Navigation Galileo, GLONASS, GPS, GNSS Transceiver Module 1.575GHz, 1.601GHz Integrated, Ceramic Patch Surface Mount)
pins: 1 RXD1, 2 TXD1, 3 GND, 4 VCC, 5 V_BCKP, 6 1PPS, 7 FORCE_ON, 8 AADET_N, 9 NC, 10 RESET, 11 EX_ANT, 12 GND

## HEADER
designator H?  Manufacturer Part Number 1: M20-9990246
HEADER 2X1; Manufacturer 1: Harwin Inc.; Package/Footprint: TH; Mounting Type: TH; Supplier 1: Digi-Key; Supplier Part Number 1: 952-2262-ND
footprint HDR1X2 (Connector; Header; 2 Position)
pins: 1, 2

## HEADER 4X2
designator J?  Manufacturer Part Number 1: M20-9980445
CONN HEADER VERT 8POS 2.54MM; Manufacturer 1: Harwin Inc.; Supplier Part Number 1: 952-2122-ND; Supplier 1: Digi-Key
footprint HEADER_2X4
pins: 1 VCC, 2, 3, 4, 5 GND, 6 2, 7 3, 8 4

## HEADER 5x2
designator J?  Supplier Part Number 1: WM4240-ND
CONN HEADER VERT 10POS 2.54MM; Manufacturer 1: Molex; Manufacturer Part Number 1: 0901512210; Supplier 1: Digi-Key; Verified: No
footprint HEADER 2X5 (CONN HEADER VERT 10POS 2.54MM)
pins: 1 VCC, 2, 3, 4, 5, 6 GND, 7, 8, 9, 10

## HEADER_NUCLEO
designator J?  Manufacturer Part Number 1: PPPC192LFBN-RC
CONN HDR 38POS 0.1 GOLD PCB; Manufacturer 1: Sullins; Package/Footprint: TH; Supplier 1: Digi-Key; Mounting Type: TH; Supplier Part Number 1: S7122-ND; Verified: No; LCSC Part #: *
footprint HEADER_NUCLEO (Nucleo board's header)
part A pins: 1, 2, 3, 4, 5, 6, 7, 8, 9, 10, 11, 12, 13, 14, 15, 16, 17, 18, 19, 20, 21, 22, 23, 24, 25, 26, 27, 28, 29, 30, 31, 32, 33, 34, 35, 36, 37, 38
part B pins: 39 1, 40 2, 41 3, 42 4, 43 5, 44 6, 45 7, 46 8, 47 9, 48 10, 49 11, 50 12, 51 13, 52 14, 53 15, 54 16, 55 17, 56 18, 57 19, 58 20, 59 21, 60 22, 61 23, 62 24, 63 25, 64 26, 65 27, 66 28, 67 29, 68 30, 69 31, 70 32, 71 33, 72 34, 73 35, 74 36, 75 37, 76 38

## IC GATE XOR
designator U?  Manufacturer Part Number 1: SN74AHC1G02DBVT
IC GATE NOR 1CH 2-INP SOT23-5; Manufacturer 1: Texas Instruments; Quiescent Current: 1uA; Propagation Delay: 7.5ns; Number of Outputs: 1; Number of Inputs: 2; Low Level Output Current: 8mA; High Level Output Current: -8mA; Turn-On Delay Time: 8.5ns; Number of Pins: 5; Logic Function: NOR; Number of Gates: 1; Number of Input Lines: 2; Number of Output Lines: 1; Number of Circuits: 1; Number of Elements: 1; Number of Bits: 1; Output Current: 8mA; Max Output Current: 8mA; Supplier 1: Digi-Key; Supplier Part Number 1: 296-1094-1-ND
footprint SOT23-5
pins: 1 A, 2 B, 3 GND, 4 Y, 5 VCC

## IC Motor Driver
designator U?  Manufacturer Part Number 1: DRV8701ERGET
IC MOTOR DRIVER 0V-5.5V 24VQFN; Manufacturer 1: Texas Instruments; Supplier 1: Digi-Key; Supplier Part Number 1: 296-42155-1-ND
footprint VFQFPN-24_N (QFN, 24-Leads, Body 4x4mm, Pitch 0.5mm, Thermal Pad 2.5x2.5mm, IPC Medium Density)
pins: 1 VM, 2 VCP, 3 CPH, 4 CPL, 5 GND, 6 VREF, 7 AVDD, 8 DVDD, 9 nFAULT, 10 SNSOUT, 11 SO, 12 IDRIVE, 13 nSLEEP, 14 EN, 15 PH, 16 GND, 17 GH1, 18 SH1, 19 GL1, 20 SN, 21 SP, 22 GL2, 23 SH2, 24 GH2, 25 GND

## IC MUX/DEMUX 2x1
designator U?  Manufacturer Part Number 1: 74LVC1G3157GW,125
IC MUX/DEMUX 2X1 6TSSOP; Manufacturer 1: NXP Semiconductors; Number of Channels: 1; Bandwidth: 300MHz; Propagation Delay: 1ns; Max Power Dissipation: 250mW; On-State Resistance: 15R; Turn-On Delay Time: 8.7ns; Turn-Off Delay Time: 6ns; Operating Supply Current: 40uA; Number of Inputs: 2; Logic Function: Demultiplexer,Demux,Multiplexer,Mux; Supply Type: Single; Supplier 1: Digi-Key; Number of Pins: 6; Number of Outputs: 1; Power Dissipation: 250mW; Number of Circuits: 1; Supplier Part Number 1: 1727-6073-6-ND
footprint IC MUX/DEMUX
pins: 1 Y1, 2 GND, 3 Y0, 4 Z, 5 VCC, 6 S

## IC_9DOF_IMU
designator U?  Manufacturer Part Number 1: ICM-20948
IMU ACCEL/GYRO/COMPI2C/SPI 24QFN; Manufacturer 1: TDK InvenSense; Package/Footprint: 24-QFN; Supplier 1: Digi-Key; Supplier Part Number 1: 1428-1123-1-ND; Mounting Type: SMD; Verified: No
footprint ICM-20948 (24-QFN)
pins: 7 AUX_CL, 8 VDDIO, 9 AD0/SDO, 10 REGOUT, 11 FSYNC, 12 INT1, 13 VDD, 18 GND, 19 RESV_19, 20 RESV_20, 21 AUX_DA, 22 nCS, 23 SCL/SCLK, 24 SDA/SDI

## IC_9DOF_IMU_W24
designator U?
Accelerometer, Gyroscope, Magnetometer, 9 Axis Sensor I2C, SPI Output; Manufacturer 1: TDK InvenSense; Manufacturer Product Number: ICM-20948; DigiKey Part Number: 1428-1123-6-ND; Package / Case: 24-TFQFN Module Exposed Pad; Supplier: DigiKey; Parameter 6: *; Mounting Type: Surface Mount
footprint ICM20948 - 9DOFIMU (Accelerometer, Gyroscope, Magnetometer, 9 Axis Sensor I2C, SPI Output)
pins: 1 NC "Do not connect", 2 NC "Do not connect", 3 NC "Do not connect", 4 NC "Do not connect", 5 NC "Do not connect", 6 NC "Do not connect", 7 AUX_CL "I2C Master serial clock, for connecting to external sensors", 8 VDDIO "Digital I/O supply voltage", 9 AD0 / SDO "I2C Slave Address LSB (AD0); SPI serial data output (SDO)", 10 REGOUT "I2C Slave Address LSB (AD0); SPI serial data output (SDO)", 11 FSYNC "Frame synchronization digital input. Connect to GND if unused", 12 INT1 "Interrupt 1", 13 VDD (power) "Power supply voltage", 14 NC "Do not connect", 15 NC "Do not connect", 16 NC "Do not connect", 17 NC "Do not connect", 18 GND (power) "Power supply ground", 19 RESV "Reserved. Do not connect.", 20 RESV "Reserved. Connect to GND.", 21 AUX_DA "I2C master serial data, for connecting to external sensors", 22 nCS "Chip select (SPI mode only)", 23 SCL / SCLK "I2C serial clock (SCL); SPI serial clock (SCLK)", 24 SDA / SDI "I2C serial clock (SCL); SPI serial clock (SCLK)"

## IC_555_TIMER
designator U?  Manufacturer Part Number 1: NE555DR
IC OSC 555 TIMER 100KHZ 8-SOIC; Manufacturer 1: Texas Instruments; Package/Footprint: 8-SOIC; Supplier 1: Digi-Key; Supplier Part Number 1: 296-6501-1-ND; Mounting Type: SMD; LCSC Part #: *
footprint 8-SOIC_M (SOIC, 8-Leads, Body 5x4mm, Pitch 1.27mm, IPC Low Density)
pins: 1 GND "Ground", 2 TRIG "Start of timing input.", 3 OUT "High current timer output signal", 4 ~{RESET} "Active low reset input forces output and discharge low.", 5 CONT "Controls comparator thresholds, Outputs 2/3 VCC, allows bypass capacitor connection", 6 THRES "End of timing input.", 7 DISCH "Open collector output to discharge timing capacitor", 8 VCC "Input supply voltage, 4.5 V to 16 V."

## IC_ADC_8BIT_SAR
designator U?
IC ADC 8BIT I2C 188KSPS; Manufacturer 1: Texas Instruments; Manufacturer Part Number 1: ADC081C021CIMM/NOPB; Package: 8-VSSOP; Supplier Part Number 1: ADC081C021CIMM/NOPBCT-ND; Supplier 1: Digi-Key; Mounting Type: SMD
pins: 1 SCL, 2 ALERT, 3 ADR0, 4 VIN, 5 VA, 6 ADR1, 7 GND, 8 SDA

## IC_ADC_12BIT_SAR
designator U?  Manufacturer Part Number 1: ADCS7476AIMF/NOPB
IC ADC 12BIT SAR SOT23-6; Manufacturer 1: TI National Semiconductor; Package/Footprint: SOT-23-6; Supplier 1: Digi-Key; Mounting Type: SMD; Supplier Part Number 1: ADCS7476AIMF/NOPBCT-ND
footprint ADCS747x (sot-23-6)
pins: 1 VDD, 2 GND, 3 VIN, 4 SCLK, 5 SDATA, 6 CSn

## IC_AND_GATE
designator U?  Manufacturer Part Number 1: TC7WH08FK,LJ(CT
IC GATE AND 2CH 2-INP US8; Manufacturer 1: Toshiba; Package/Footprint: 8-VFSOP; Supplier 1: Digi-Key; Mounting Type: SMD; Supplier Part Number 1: TC7WH08FKLJ(CTCT-ND; Verified: No; LCSC Part #: *
footprint 8-VFSOP
part A pins: 1 A1, 2 B1, 4 GND, 7 Y1, 8 Vcc
part B pins: 3 Y2, 5 A2, 6 B2

## IC_BATT_MANAGER
designator U?  Manufacturer Part Number 1: BQ40Z80RSMT
IC BATT MFUNC LI-ION 2-7C 32VQFN; Manufacturer 1: Texas Instruments; Supplier Part Number 1: 296-BQ40Z80RSMTCT-ND; Supplier 1: Digi-Key
footprint BQ40Z80RSMT (QFN40P400X400X100-33N_BQ40Z80RSMT(Primary))
pins: 1 VC5, 2 VC4, 3 VC3, 4 VC2, 5 VC1, 6 SRN, 7 NC, 8 SRP, 9 VSS, 10 TS1, 11 TS2, 12 VC7SENSE/TS3/ADCIN1/GPIO, 13 ~{DISP}/TS4/ADCIN2/GPIO, 14 NC, 15 VC7EN/!DISP!/GPIO, 16 CB7EN/PDSG/GPIO, 17 ~{PRES}/~{SHUTDN}/~{DISP}/PDSG/GPIO, 18 SMBD, 19 SMBC, 20 LEDCNTLA/PDSG/GPIO, 21 LEDCNTLB/GPIO, 22 LEDCNTLC/GPIO, 23 FUSE, 24 VCC, 25 PACK, 26 DSG, 27 NC, 28 PCHG, 29 CHG, 30 BAT, 31 PBI, 32 VC6, 33 PAD, 33_1 VIA

## IC_Bidirectional_Level_Shifter
designator U?, comment TXB0104PWR
Voltage Level Translator Bidirectional 1 Circuit 4 Channel 100Mbps 14-TSSOP; Manufacturer: Texas Instruments; Manufacture product number: TXB0104PWR; Supplier: Digikey; Mounting type: Surface Mount; Package: 14-TSSOP; ComponentLink1Description: Datasheet; ComponentLink1URL: https://www.digikey.ca/en/products/detail/texas-instruments/TXB0104PWR/1629102
footprint TXB0104PWR 4-bit bidirectional voltage-level translator (Voltage Level Translator Bidirectional 1 Circuit 4 Channel 100Mbps 14-TSSOP)
part C pins: 1 VCCA (power), 2 A1, 3 A2, 4 A3, 5 A4, 6 NC, 7 GND, 8 OE, 9 NC, 10 B4, 11 B3, 12 B2, 13 B1, 14 VCCB (power)

## IC_BUFFER
designator U?  Manufacturer Part Number 1: M74VHC1GT50DTT1G
IC BUFFER NON-INVERT 5.5V 5TSOP; Manufacturer 1: onsemi; Package/Footprint: TSOP-5; Mounting Type: SMD; Supplier 1: Digi-Key; Supplier Part Number 1: M74VHC1GT50DTT1GOSCT-ND
footprint SOT23-5
pins: 1 NC "No connect", 2 A "Input A", 3 GND "Ground", 4 Y "Output Y", 5 VCC "Power supply"

## IC_CAN_TRANSCEIVER
designator U?  Manufacturer Part Number 1: LTC2875IS8#PBF
IC TXRX CAN 4MBPS 8SO; Manufacturer 1: Linear Technologies; Package/Footprint: 8-SOIC; Supplier Part Number 1: LTC2875IS8#PBF-ND; Supplier 1: Digi-Key; Mounting Type: SMD; LCSC Part #: C117076
footprint LTC2875 (SOIC, 8-Leads, Body 5x4mm, Pitch 1.27mm, IPC Low Density)
footprint LT-S8_N (SOP, 8-Leads, Body 4.9x3.9mm, Pitch 1.27mm, IPC Medium Density)
pins: 1 TXD, 2 GND, 3 VCC, 4 RXD, 5 SPLIT, 6 CANL, 7 CANH, 8 RS

## IC_CAN_TRANSCEIVER_1
designator U?  Manufacturer Part Number 1: TCAN334GDR
IC TRANSCEIVER 1/1 8SOIC; Manufacturer 1: Maxim; Package/Footprint: 14-SOIC; Mounting Type: SMD; Supplier 1: Digi-Key; Supplier Part Number 1: 296-49940-1-ND
footprint TCAN334GDR
pins: 1 TXD, 2 GND, 3 VCC "Receiver output", 4 RXD "Receiver output enable", 5 SHDN "Inverting driver output", 6 CANL "Noninverting driver output", 7 CANH "Inverting receiver input", 8 STB "Non-inverting receiver input"

## IC_CAN_TRANSCEIVER_1MBPS
designator U?  Manufacturer Part Number 1: TCAN332DR
IC TXRX CAN 1MBPS 8SOIC; Manufacturer 1: Texas Instruments; Voltage - Supply: 3V ~ 3.6V; Package/Footprint: 8-SOIC; Receiver Hysteresis: 120 mV; ComponentLink1Description: New link; ComponentLink1URL: *; Supplier 1: Digi-Key; Supplier Part Number 1: 296-43711-1-ND; Data Rate: 1Mbps; Operating Temperature: -40°C ~ 125°C; Mounting Type: Surface Mount
footprint TCAN332DR (SOIC, 8 Leads, Body 5x4mm, Pitch 1.27mm)
pins: 1 TXD, 2 GND, 3 VCC, 4 RXD, 5 NC, 6 CANL, 7 CANH, 8 NC

## IC_COMPARATOR_4_CH
designator U?, comment Manufacturer Part Number: LM339AMX  (hidden comment: IC QUAD COMPARATOR)
Comparator, 4 Func, 5000uV Offset-Max, 1300ns Response Time, BIPolar, PDSO14; Manufacturer: TI National Semiconductor; Package Body Material: Plastic; Output Type: OPEN-COLLECTOR; Average Bias Current-Max (IIB): 400nA; Bias Current-Max (IIB) @25C: 250nA; Input Offset Voltage-Max: 4mV; Neg Supply Voltage Limit-Max: 0V; Number of Functions: 4; Package Equivalence Code: SOP14,.25; Power Supplies: 5V; Max Supply Current: 2.5mA; Supply Voltage Limit-Max: 36V; Qualification Status: Not Qualified; Supplier 1: Digi-Key; RoHS: No; Category: Comparators; Stock 1: 4510; Pricing 1: 1=1.51000, 10=1.35100, 25=1.28200, 100=1.05320, 250=0.98452, 500=0.87004, 1000=0.75600 (USD); Package Code: SOP; Number of Pins: 14; Package Shape: Rectangular; Terminal Finish: Tin; Min Operating Temperature: -25°C; Max Operating Temperature: 85°C; JESD-609 Code: e0; Amplifier Type: COMPARATOR; JESD-30 Code: R-PDSO-G14; Moisture Sensitivity Level: 1; Neg Supply Voltage-Nom (Vsup): 0V; Package Style: SMALL OUTLINEMeter; Peak Reflow Temperature (Cel): 235°C; Response Time-Nom: 1300ns; Supply Voltage-Nom (Vsup): 5V; Surface Mount: Yes; Technology: BIPOLAR; Terminal Form: Gull Wing; Terminal Position: DUAL; Length: 8.65mm; Width: 3.9mm; Height - Seated (Max): 1.75mm; Terminal Pitch: 1.27mm; Temperature Grade: OTHER; REACH SVHC: No SVHC; RoHS Compliant: No; ComponentLink1URL: https://www.ti.com:443/lit/ds/symlink/lm139-n.pdf?src-supplier=IHS+Markit; ComponentLink1Description: https://www.ti.com:443/lit/ds/symlink/lm139-n.pdf?src-supplier=IHS+Markit; ComponentLink2URL: https://datasheet.ciiva.com/41798/lm139-n-41798943.pdf?src-supplier=Digi-Key; ComponentLink2Description: https://datasheet.ciiva.com/41798/lm139-n-41798943.pdf?src-supplier=Digi-Key; Supplier Part Number 1: 296-37638-1-ND
footprint 14-SOIC
pins: 1 OUTPUT 2 (out), 2 OUTPUT 1 (out), 3 V+ (power), 4 INPUT 1- (in), 5 INPUT 1+ (in), 6 INPUT 2- (in), 7 INPUT 2+ (in), 8 INPUT 3- (in), 9 INPUT 3+ (in), 10 INPUT 4- (in), 11 INPUT 4+ (in), 12 GND (power), 13 OUTPUT 4 (out), 14 OUTPUT 3 (out)

## IC_DUAL_NMOS
designator U?  Manufacturer Part Number 1: 2N7002PS,115
IC DUAL N-CHANNEL MOSFET; Manufacturer 1: Nexperia; Supplier 1: Digi-Key; Supplier Part Number 1: 1727-4791-1-ND
footprint SOT-363
pins: 1 S1, 2 G1, 3 D2, 4 S2, 5 G2, 6 D1

## IC_GATE_DRIVER_HALF_BRIDGE
designator U?, comment LM5109BMAX/NOPBCT-ND
Half Bridge Based MOSFET Driver, 1A, PDSO8; Manufacturer: TI National Semiconductor; Package Body Material: Plastic; High Side Driver: Yes; Number of Functions: 1; Package Equivalence Code: SOP8,.25; Power Supplies: 12V; Max Supply Voltage: 14V; Min Supply Voltage: 8V; Turn-Off Delay Time: 0.056us; Qualification Status: Not Qualified; Supplier 1: Digi-Key; Manufacturer Part Number: LM5109BMAX/NOPB; RoHS: Yes; Category: Gate Drivers; Stock 1: 42623; Pricing 1: 1=1.05000, 10=0.93500, 25=0.88760, 100=0.72900, 250=0.68144, 500=0.60218, 1000=0.52325 (USD); Package Code: SOP; Number of Pins: 8; Package Shape: Rectangular; Terminal Finish: Tin; Min Operating Temperature: -40°C; Max Operating Temperature: 125°C; JESD-609 Code: e3; Interface IC Type: HALF BRIDGE BASED MOSFET DRIVER; JESD-30 Code: R-PDSO-G8; Moisture Sensitivity Level: 1; Package Style: SMALL OUTLINEMeter; Peak Reflow Temperature (Cel): 260°C; Supply Voltage-Nom: 12V; Surface Mount: Yes; Terminal Form: Gull Wing; Terminal Position: DUAL; Turn-On Delay Time: 0.056us; Length: 4.9mm; Width: 3.9mm; Height - Seated (Max): 1.75mm; Terminal Pitch: 1.27mm; Temperature Grade: AUTOMOTIVE; REACH SVHC: Yes; RoHS Compliant: Yes; ComponentLink1URL: https://www.ti.com:443/lit/ds/symlink/lm5109b.pdf?src-supplier=IHS+Markit; ComponentLink1Description: https://www.ti.com:443/lit/ds/symlink/lm5109b.pdf?src-supplier=IHS+Markit; ComponentLink2URL: https://datasheet.ciiva.com/6609/lm5109b-6609744.pdf?src-supplier=Digi-Key; ComponentLink2Description: https://datasheet.ciiva.com/6609/lm5109b-6609744.pdf?src-supplier=Digi-Key; ComponentLink3URL: https://datasheet.ciiva.com/41458/001014174-da-01-en-ic-dvr-half-b-lm5109bmax-nopb-soic-8-tid-41458460.pdf?src-supplier=Conrad; ComponentLink3Description: https://datasheet.ciiva.com/41458/001014174-da-01-en-ic-dvr-half-b-lm5109bmax-nopb-soic-8-tid-41458460.pdf?src-supplier=Conrad; ComponentLink4URL: https://datasheet.ciiva.com/6609/lm5109b-6609743.pdf?src-supplier=Digi-Key; ComponentLink4Description: https://datasheet.ciiva.com/6609/lm5109b-6609743.pdf?src-supplier=Digi-Key; Supplier Part Number 1: LM5109BMAX/NOPBCT-ND
footprint SOIC127P599X175-8N
pins: 1 VDD (power), 2 HI (in), 3 LI (in), 4 VSS (power), 5 LO (out), 6 HS (out), 7 HO (out), 8 HB (out)

## IC_GPIO_I2C_EXPANDER 8CH 16TSSOP
designator U?, comment 8 Channel I2C GPIO Expander
Manufacturer: NXP USA Inc.; Voltage - Supply: 1.65V ~ 5.5V; Clock Frequency: 400 kHz; Current - Output Source/Sink: 10mA, 25mA; Supplier 1: Digi-Key; Package / Case: 16-TSSOP; Operating Temperature: -40°C ~ 85°C; Supplier Part Number 1: 568-9924-1-ND
footprint TSSOP16
pins: 1 A0, 2 A1, 3 ~{RESET}, 4 P0, 5 P1, 6 P2, 7 P3, 8 VSS, 9 P4, 10 P5, 11 P6, 12 P7, 13 ~{INT}, 14 SCL, 15 SDA, 16 VDD
text: PCAL9538APWJ

## IC_HALFBRIDGEDRV_ADP3110AKRZ
designator U?, comment HALF BRIDGE MOSFET DRIVER  Manufacturer Part Number: ADP3110AKRZ-RL
Half Bridge Based MOSFET Driver, PDSO8; Manufacturer: ON Semiconductor; Package Body Material: Plastic; High Side Driver: Yes; Number of Functions: 1; Package Equivalence Code: SOP8,.25; Power Supplies: 12V; Max Supply Voltage: 13.2V; Min Supply Voltage: 4.15V; Turn-Off Delay Time: 0.07us; Turn-On Delay Time: 0.04us; Qualification Status: Not Qualified; Supplier 1: Digi-Key; RoHS: Yes; Category: Gate Drivers; Stock 1: 765; Pricing 1: 1=0.63000, 10=0.53700, 25=0.50080, 100=0.40070, 250=0.37208, 500=0.31482, 1000=0.24327 (USD); Package Code: SOP; Number of Pins: 8; Package Shape: Rectangular; Terminal Finish: Tin; Min Operating Temperature: 0°C; Max Operating Temperature: 85°C; JESD-609 Code: e3; Interface IC Type: HALF BRIDGE BASED MOSFET DRIVER; JESD-30 Code: R-PDSO-G8; Moisture Sensitivity Level: 1; Package Style: SMALL OUTLINEMeter; Supply Voltage-Nom: 12V; Surface Mount: Yes; Terminal Form: Gull Wing; Terminal Position: DUAL; Length: 4.9mm; Width: 3.9mm; Height - Seated (Max): 1.75mm; Terminal Pitch: 1.27mm; Temperature Grade: OTHER; REACH SVHC: Yes; RoHS Compliant: Yes; ComponentLink1URL: https://datasheet.ciiva.com:443/pdfs/VipMasterIC/IC/ONSM/ONSMS15049/ONSMS15049-1.pdf?src-supplier=IHS+Markit; ComponentLink1Description: https://datasheet.ciiva.com:443/pdfs/VipMasterIC/IC/ONSM/ONSMS15049/ONSMS15049-1.pdf?src-supplier=IHS+Markit; ComponentLink2URL: https://datasheet.ciiva.com/6613/adp3110a-d-6613106.pdf?src-supplier=Digi-Key; ComponentLink2Description: https://datasheet.ciiva.com/6613/adp3110a-d-6613106.pdf?src-supplier=Digi-Key; Supplier Part Number 1: ADP3110AKRZ-RLOSCT-ND
footprint 8-SOIC_M (SOIC, 8-Leads, Body 5x4mm, Pitch 1.27mm, IPC Low Density)
pins: 1 BST, 2 IN (in), 3 OD (in), 4 Vcc (power), 5 DRVL (out), 6 PGND (power), 7 SWN, 8 DRVH (out)

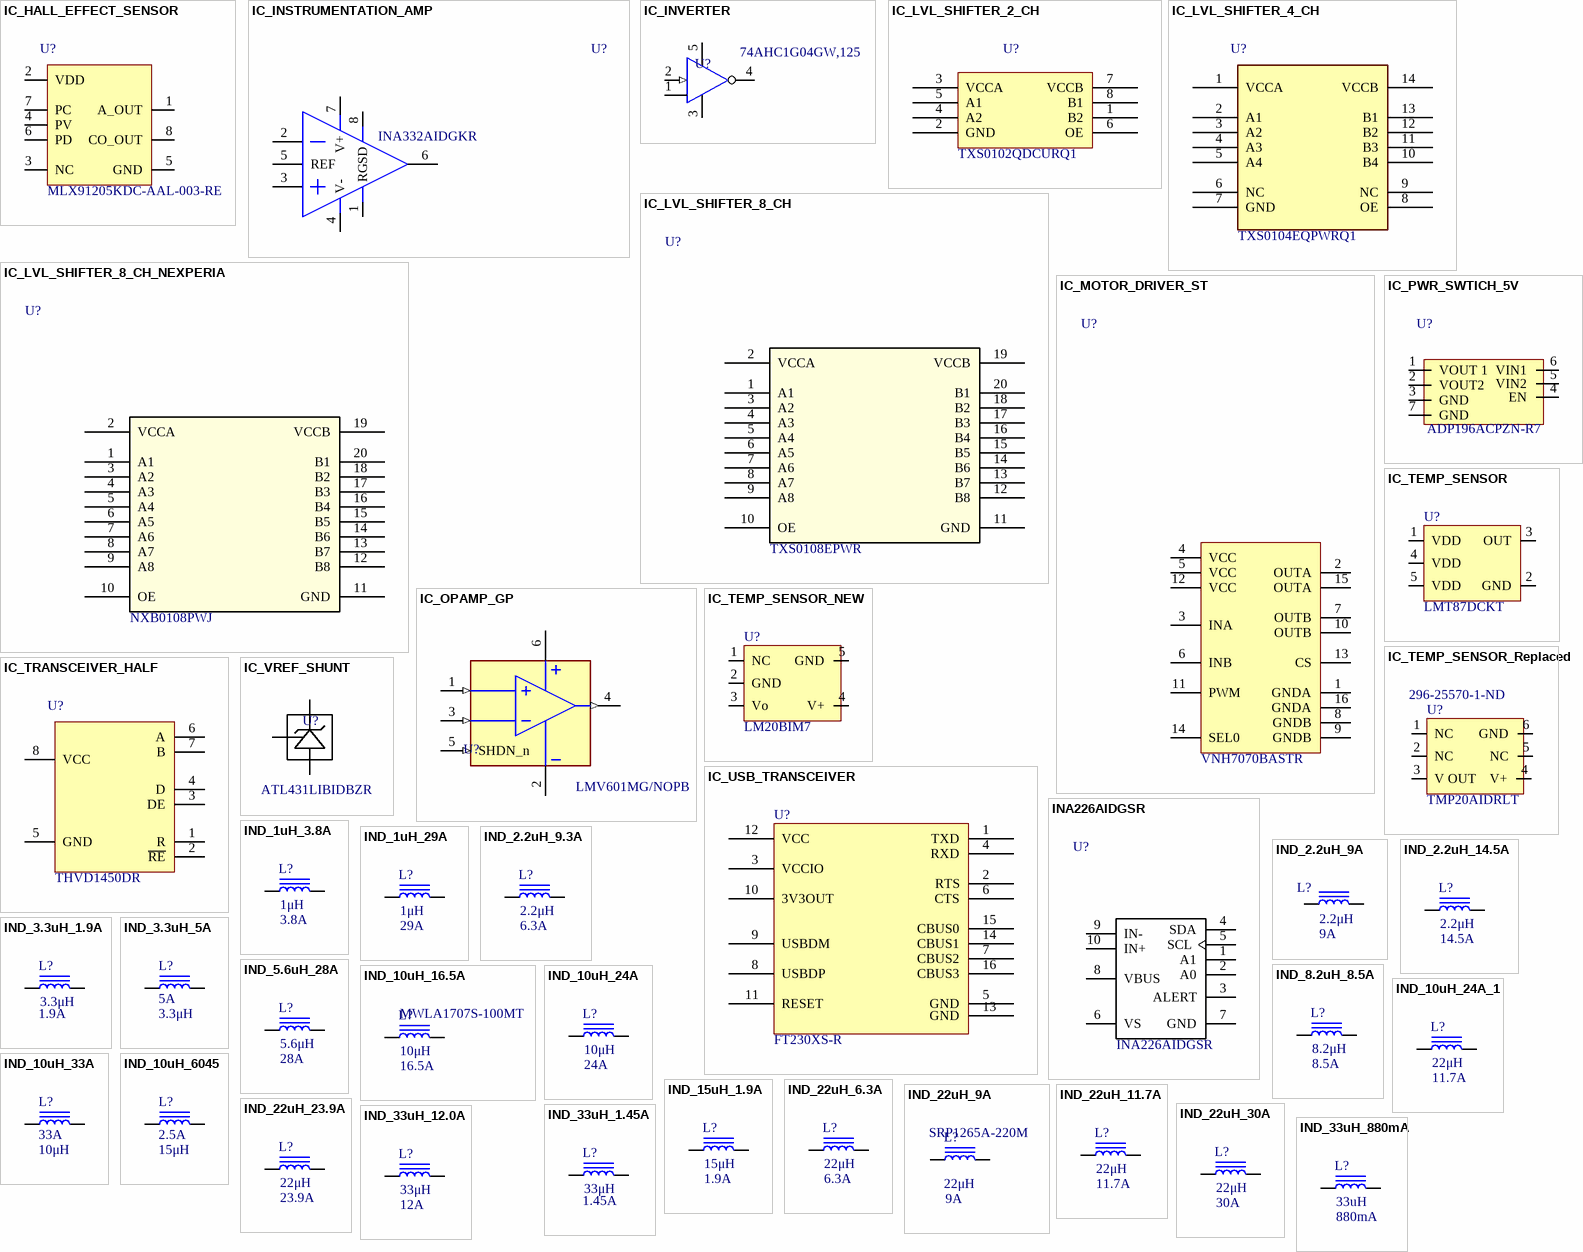
[diagram p9: symbols IC_HALL_EFFECT_SENSOR to IND_33uH_880mA]

## IC_HALL_EFFECT_SENSOR
designator U?  Manufacturer Part Number 1: MLX91205KDC-AAL-003-RE  (hidden comment: IC_HALL_EFFECT_SENSOR)
SENSOR CURRENT HALL 10MT AC/DC; Manufacturer 1: Melexis; Package/Footprint: 8-SOIC; Linearity: 0.5%; Accuracy: 2%; Operating Supply Current: 11mA; Response Time: 8us; Max Supply Current: 16mA; Polarity: Bidirectional; Number of Channels: 1; Frequency: 100kHz; Output Current: 1mA; Supplier 1: Digi-Key; Mounting Type: SMD; Number of Pins: 8; Package Quantity: 1; Packaging: Tape and Reel; Supplier Part Number 1: MLX91205KDC-AAL-003-RECT-ND
footprint 8-SOIC_M (SOIC, 8-Leads, Body 5x4mm, Pitch 1.27mm, IPC Low Density)
pins: 1 A_OUT, 2 VDD, 3 NC, 4 PV, 5 GND, 6 PD, 7 PC, 8 CO_OUT

## IC_INSTRUMENTATION_AMP
designator U?  Manufacturer Part Number 1: INA332AIDGKR
IC INSTRUMENTATION AMP 1 CIRCUIT 8VSSOP; Manufacturer 1: Texas Instruments; Supplier 1: Digi-Key; Mounting Type: SMD; Supplier Part Number 1: 296-41265-1-ND; Package: 8-VSSOP
footprint INA332AIDGKR (Instrumentation amplifier, 8-VSSOP)
pins: 1 RG (power), 2 IN-, 3 IN+, 4 V-, 5 REF (power), 6 Vout, 7 V+ (power), 8 SD (power)

## IC_INVERTER
designator U?  Manufacturer Part Number 1: 74AHC1G04GW,125
IC INVERTER 1CH 1-INP 5TSSOP; Manufacturer 1: Nexperia USA Inc.; Package/Footprint: 5-TSSOP; Verfified: No; Supplier 1: Digi-Key; Supplier Part Number 1: 1727-3147-1-ND; Mounting Type: SMD; LCSC Part #: *
footprint SOT353 (TSSOP5, SC-70-5)
pins: 1 NC (hiz), 2 A (in), 3 GND, 4 Y, 5 Vcc

## IC_LVL_SHIFTER_2_CH
designator U?  Manufacturer Part Number 1: TXS0102QDCURQ1
IC TRNSLTR BIDIRECTIONAL US8; Manufacturer 1: Texas Instruments; Supplier 1: Digi-Key; Supplier Part Number 1: 296-37938-1-ND
footprint TXS0102QDCURQ1
pins: 1 B2, 2 GND, 3 VCCA, 4 A2, 5 A1, 6 OE, 7 VCCB, 8 B1

## IC_LVL_SHIFTER_4_CH
designator U?  Manufacturer Part Number 1: TXS0104EQPWRQ1
IC BIDIRECTIONAL LEVEL SHIFTER 4 CHANNEL 14TSSOP; Manufacturer 1: Texas Instruments; Data Rate: 24Mbps; Package/Footprint: 14-TSSOP; VCCA Voltage: 1.65 V ~ 3.6 V; VCCB Voltage: 2.3 V ~ 5.5 V; VCCA Max: 3V6 MAX; VCCB Max: 5V5 MAX; Supplier 1: Digi-Key; Mounting Type: SMD; Supplier Part Number 1: 296-41034-1-ND
footprint TXS0104EQPWRQ1
pins: 1 VCCA, 2 A1, 3 A2, 4 A3, 5 A4, 6 NC, 7 GND, 8 OE, 9 NC, 10 B4, 11 B3, 12 B2, 13 B1, 14 VCCB

## IC_LVL_SHIFTER_8_CH
designator U?  Manufacturer Part Number 1: TXS0108EPWR  (hidden comment: IC_LVL_SHIFTER_8_CH)
IC BIDIRECTIONAL LEVEL SHIFTER 8 CHANNEL 20TSSOP; Manufacturer 1: Texas Instruments; Package/Footprint: 20-TSSOP; Supplier 1: Digi-Key; Supplier Part Number 1: 296-23011-1-ND; Mounting Type: SMD
footprint LEVEL_SHIFTER_8_CHANNEL
pins: 1 A1, 2 VCCA, 3 A2, 4 A3, 5 A4, 6 A5, 7 A6, 8 A7, 9 A8, 10 OE, 11 GND, 12 B8, 13 B7, 14 B6, 15 B5, 16 B4, 17 B3, 18 B2, 19 VCCB, 20 B1

## IC_LVL_SHIFTER_8_CH_NEXPERIA
designator U?, comment Manufacturer Part Number 1: NXB0108PWJ  (hidden comment: IC_LVL_SHIFTER_8_CH)
IC BIDIRECTIONAL LEVEL SHIFTER 8 CHANNEL 20TSSOP NEXPERIA; Manufacturer 1: Nexperia USA Inc.; Package/Footprint: 20-TSSOP; Mounting Type: SMD; Supplier 1: Digi-Key; Supplier Part Number 1: 1727-NXB0108PWJDKR-ND
footprint LEVEL_SHIFTER_8_CHANNEL
pins: 1 A1, 2 VCCA, 3 A2, 4 A3, 5 A4, 6 A5, 7 A6, 8 A7, 9 A8, 10 OE, 11 GND, 12 B8, 13 B7, 14 B6, 15 B5, 16 B4, 17 B3, 18 B2, 19 VCCB, 20 B1

## IC_MOTOR_DRIVER_ST
designator U?  Manufacturer Part Number 1: VNH7070BASTR
IC MOTOR DRIVER 4V-28V 16SOIC; Manufacturer 1: STMicroelectronics; Package/Footprint: 16-SOIC; Output Current: 15A; Mounting Type: SMD; Verified: Yes; Supplier 1: Digi-Key; Supplier Part Number 1: 497-17628-1-ND
footprint SO-16N
pins: 1 GNDA (power) "Source of low-side switch A", 2 OUTA "Source of high-side switch A / drain of low-side switch A", 3 INA "Clockwise input", 4 VCC (power) "Power supply voltage", 5 VCC (power) "Power supply voltage", 6 INB "Counter clockwise input", 7 OUTB "Source of high-side switch B / drain of low-side switch B", 8 GNDB (power) "Source of low-side switch B", 9 GNDB (power) "Source of low-side switch B", 10 OUTB "Source of high-side switch B / drain of low-side switch B", 11 PWM "Voltage controlled input pin with hysteresis, CMOS compatible. Gates of low-side FETS get modulated by the PWM signal during their on phase allowing speed control of the motor", 12 VCC (power) "Power supply voltage", 13 CS "Multiplexed analog sense output pin; it delivers a current proportional to the motor current according to the leg selection.", 14 SEL0 "Active high compatible with 3 V and 5 V CMOS outputs pin; in combination with INA, INB, it addresses the CurrentSense information delivered to the micro according to the operative truth table.", 15 OUTA "Source of high-side switch A / drain of low-side switch A", 16 GNDA (power) "Source of low-side switch A"